# EAGLE library part AS-ITM-00366 (library tinycircuits)
IC MCU 32BIT 1MB FLASH 100LQFP
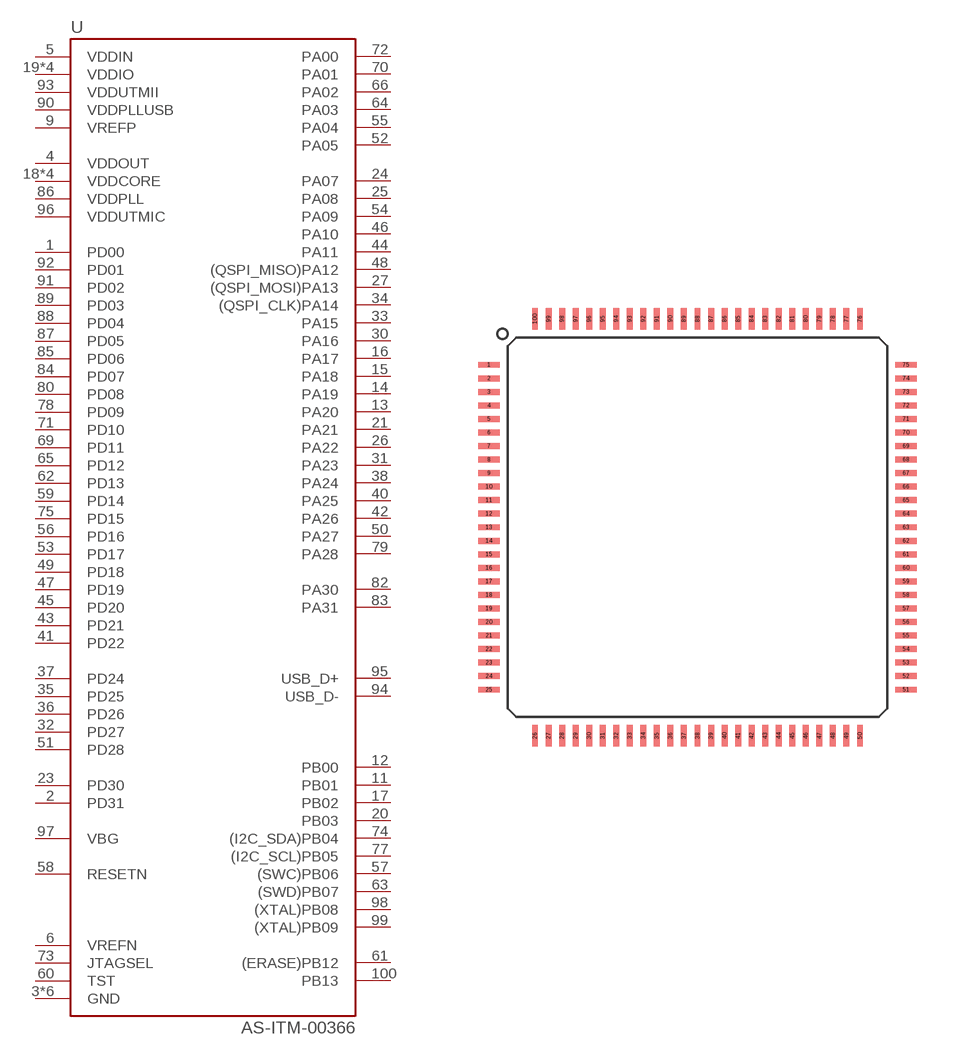
[diagram p147: symbol with the pads of LQFP-100; footprint LQFP-100]

Designator prefix U

## AS-ITM-00366 (PARTNO: AS-ITM-00366; VALUE: ATSAMS70N20A)  [LQFP-100]
1  PD00
2  PD31
3  GND
4  VDDOUT
5  VDDIN
6  VREFN
7  GND
8  GND
9  VREFP
10  GND
11  PB01
12  PB00
13  PA20
14  PA19
15  PA18
16  PA17
17  PB02
18  VDDCORE
19  VDDIO
20  PB03
21  PA21
22  VDDCORE
23  PD30
24  PA07
25  PA08
26  PA22
27  (QSPI_MOSI)PA13
28  VDDIO
29  GND
30  PA16
31  PA23
32  PD27
33  PA15
34  (QSPI_CLK)PA14
35  PD25
36  PD26
37  PD24
38  PA24
39  VDDCORE
40  PA25
41  PD22
42  PA26
43  PD21
44  PA11
45  PD20
46  PA10
47  PD19
48  (QSPI_MISO)PA12
49  PD18
50  PA27
51  PD28
52  PA05
53  PD17
54  PA09
55  PA04
56  PD16
57  (SWC)PB06
58  RESETN
59  PD14
60  TST
61  (ERASE)PB12
62  PD13
63  (SWD)PB07
64  PA03
65  PD12
66  PA02
67  GND
68  VDDIO
69  PD11
70  PA01
71  PD10
72  PA00
73  JTAGSEL
74  (I2C_SDA)PB04
75  PD15
76  VDDCORE
77  (I2C_SCL)PB05
78  PD09
79  PA28
80  PD08
81  VDDIO
82  PA30
83  PA31
84  PD07
85  PD06
86  VDDPLL
87  PD05
88  PD04
89  PD03
90  VDDPLLUSB
91  PD02
92  PD01
93  VDDUTMII
94  USB_D-
95  USB_D+
96  VDDUTMIC
97  VBG
98  (XTAL)PB08
99  (XTAL)PB09
100  PB13

## Footprint LQFP-100 (pad centres in mm)
smd 0.8 x 0.22: 1 -7.7,6; 2 -7.7,5.5; 3 -7.7,5; 4 -7.7,4.5; 5 -7.7,4; 6 -7.7,3.5; 7 -7.7,3; 8 -7.7,2.5; 9 -7.7,2; 10 -7.7,1.5; 11 -7.7,1; 12 -7.7,0.5; 13 -7.7,0; 14 -7.7,-0.5; 15 -7.7,-1; 16 -7.7,-1.5; 17 -7.7,-2; 18 -7.7,-2.5; 19 -7.7,-3; 20 -7.7,-3.5; 21 -7.7,-4; 22 -7.7,-4.5; 23 -7.7,-5; 24 -7.7,-5.5; 25 -7.7,-6; 51 7.7,-6; 52 7.7,-5.5; 53 7.7,-5; 54 7.7,-4.5; 55 7.7,-4; 56 7.7,-3.5; 57 7.7,-3; 58 7.7,-2.5; 59 7.7,-2; 60 7.7,-1.5; 61 7.7,-1; 62 7.7,-0.5; 63 7.7,0; 64 7.7,0.5; 65 7.7,1; 66 7.7,1.5; 67 7.7,2; 68 7.7,2.5; 69 7.7,3; 70 7.7,3.5; 71 7.7,4; 72 7.7,4.5; 73 7.7,5; 74 7.7,5.5; 75 7.7,6
smd 0.22 x 0.8: 26 -6,-7.7; 27 -5.5,-7.7; 28 -5,-7.7; 29 -4.5,-7.7; 30 -4,-7.7; 31 -3.5,-7.7; 32 -3,-7.7; 33 -2.5,-7.7; 34 -2,-7.7; 35 -1.5,-7.7; 36 -1,-7.7; 37 -0.5,-7.7; 38 0,-7.7; 39 0.5,-7.7; 40 1,-7.7; 41 1.5,-7.7; 42 2,-7.7; 43 2.5,-7.7; 44 3,-7.7; 45 3.5,-7.7; 46 4,-7.7; 47 4.5,-7.7; 48 5,-7.7; 49 5.5,-7.7; 50 6,-7.7; 76 6,7.7; 77 5.5,7.7; 78 5,7.7; 79 4.5,7.7; 80 4,7.7; 81 3.5,7.7; 82 3,7.7; 83 2.5,7.7; 84 2,7.7; 85 1.5,7.7; 86 1,7.7; 87 0.5,7.7; 88 0,7.7; 89 -0.5,7.7; 90 -1,7.7; 91 -1.5,7.7; 92 -2,7.7; 93 -2.5,7.7; 94 -3,7.7; 95 -3.5,7.7; 96 -4,7.7; 97 -4.5,7.7; 98 -5,7.7; 99 -5.5,7.7; 100 -6,7.7